# EAGLE library part SIM64/4 (library con-amp2)
AMP connector
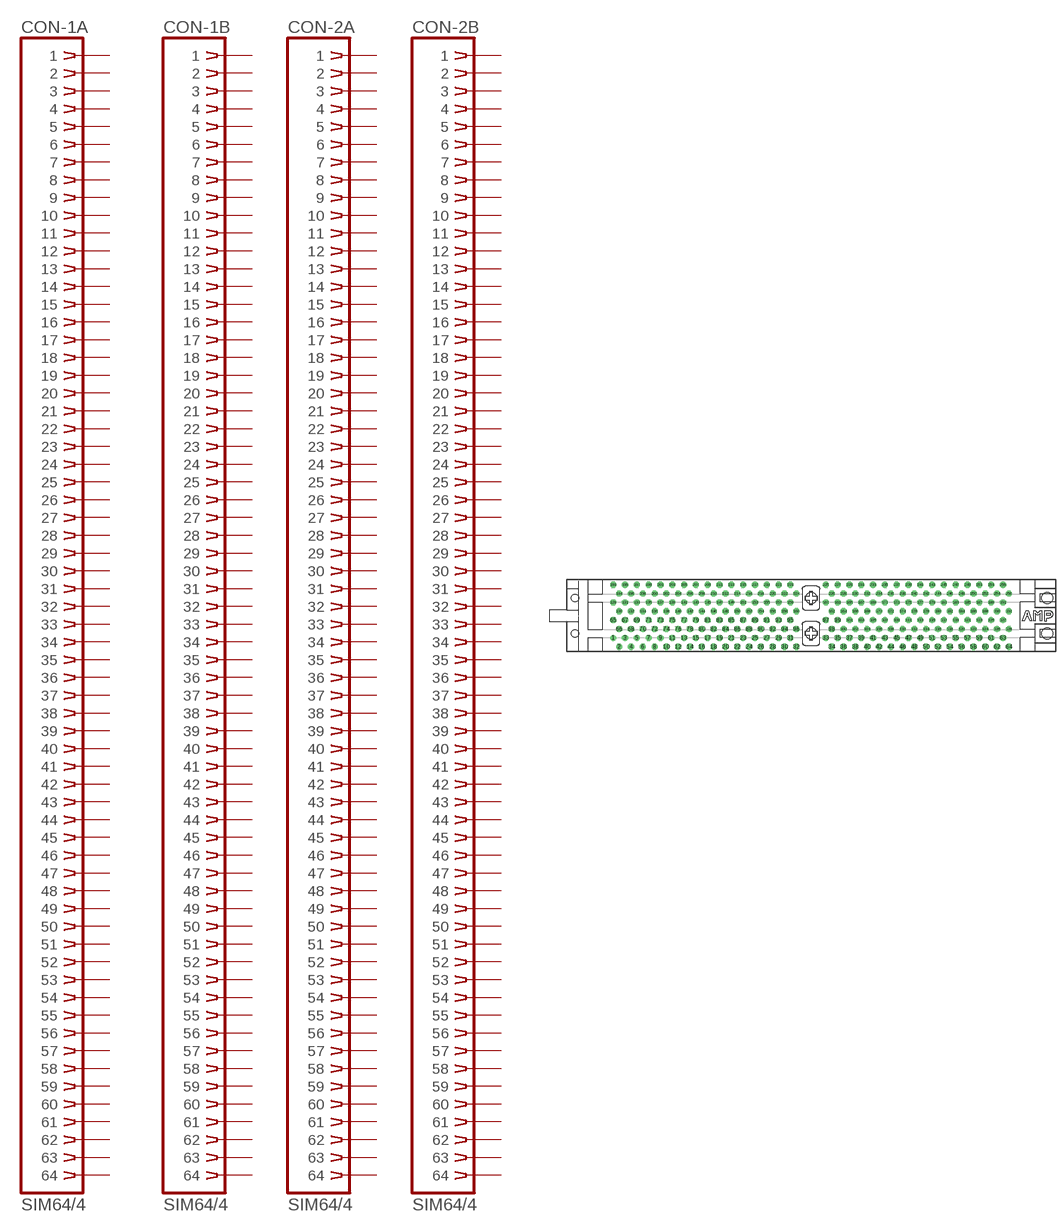
[diagram p17: symbol with the pads of 63825804; footprint 63825804]

Designator prefix CON; gates -1A=SIMM64 -1B=SIMM64 -2A=SIMM64 -2B=SIMM64

## SIM64/4  [63825804]
1  -1A:1  pas
2  -1A:2  pas
3  -1A:3  pas
4  -1A:4  pas
5  -1A:5  pas
6  -1A:6  pas
7  -1A:7  pas
8  -1A:8  pas
9  -1A:9  pas
10  -1A:10  pas
11  -1A:11  pas
12  -1A:12  pas
13  -1A:13  pas
14  -1A:14  pas
15  -1A:15  pas
16  -1A:16  pas
17  -1A:17  pas
18  -1A:18  pas
19  -1A:19  pas
20  -1A:20  pas
21  -1A:21  pas
22  -1A:22  pas
23  -1A:23  pas
24  -1A:24  pas
25  -1A:25  pas
26  -1A:26  pas
27  -1A:27  pas
28  -1A:28  pas
29  -1A:29  pas
30  -1A:30  pas
31  -1A:31  pas
32  -1A:32  pas
33  -1A:33  pas
34  -1A:34  pas
35  -1A:35  pas
36  -1A:36  pas
37  -1A:37  pas
38  -1A:38  pas
39  -1A:39  pas
40  -1A:40  pas
41  -1A:41  pas
42  -1A:42  pas
43  -1A:43  pas
44  -1A:44  pas
45  -1A:45  pas
46  -1A:46  pas
47  -1A:47  pas
48  -1A:48  pas
49  -1A:49  pas
50  -1A:50  pas
51  -1A:51  pas
52  -1A:52  pas
53  -1A:53  pas
54  -1A:54  pas
55  -1A:55  pas
56  -1A:56  pas
57  -1A:57  pas
58  -1A:58  pas
59  -1A:59  pas
60  -1A:60  pas
61  -1A:61  pas
62  -1A:62  pas
63  -1A:63  pas
64  -1A:64  pas
65  -1B:1  pas
66  -1B:2  pas
67  -1B:3  pas
68  -1B:4  pas
69  -1B:5  pas
70  -1B:6  pas
71  -1B:7  pas
72  -1B:8  pas
73  -1B:9  pas
74  -1B:10  pas
75  -1B:11  pas
76  -1B:12  pas
77  -1B:13  pas
78  -1B:14  pas
79  -1B:15  pas
80  -1B:16  pas
81  -1B:17  pas
82  -1B:18  pas
83  -1B:19  pas
84  -1B:20  pas
85  -1B:21  pas
86  -1B:22  pas
87  -1B:23  pas
88  -1B:24  pas
89  -1B:25  pas
90  -1B:26  pas
91  -1B:27  pas
92  -1B:28  pas
93  -1B:29  pas
94  -1B:30  pas
95  -1B:31  pas
96  -1B:32  pas
97  -1B:33  pas
98  -1B:34  pas
99  -1B:35  pas
100  -1B:36  pas
101  -1B:37  pas
102  -1B:38  pas
103  -1B:39  pas
104  -1B:40  pas
105  -1B:41  pas
106  -1B:42  pas
107  -1B:43  pas
108  -1B:44  pas
109  -1B:45  pas
110  -1B:46  pas
111  -1B:47  pas
112  -1B:48  pas
113  -1B:49  pas
114  -1B:50  pas
115  -1B:51  pas
116  -1B:52  pas
117  -1B:53  pas
118  -1B:54  pas
119  -1B:55  pas
120  -1B:56  pas
121  -1B:57  pas
122  -1B:58  pas
123  -1B:59  pas
124  -1B:60  pas
125  -1B:61  pas
126  -1B:62  pas
127  -1B:63  pas
128  -1B:64  pas
129  -2A:1  pas
130  -2A:2  pas
131  -2A:3  pas
132  -2A:4  pas
133  -2A:5  pas
134  -2A:6  pas
135  -2A:7  pas
136  -2A:8  pas
137  -2A:9  pas
138  -2A:10  pas
139  -2A:11  pas
140  -2A:12  pas
141  -2A:13  pas
142  -2A:14  pas
143  -2A:15  pas
144  -2A:16  pas
145  -2A:17  pas
146  -2A:18  pas
147  -2A:19  pas
148  -2A:20  pas
149  -2A:21  pas
150  -2A:22  pas
151  -2A:23  pas
152  -2A:24  pas
153  -2A:25  pas
154  -2A:26  pas
155  -2A:27  pas
156  -2A:28  pas
157  -2A:29  pas
158  -2A:30  pas
159  -2A:31  pas
160  -2A:32  pas
161  -2A:33  pas
162  -2A:34  pas
163  -2A:35  pas
164  -2A:36  pas
165  -2A:37  pas
166  -2A:38  pas
167  -2A:39  pas
168  -2A:40  pas
169  -2A:41  pas
170  -2A:42  pas
171  -2A:43  pas
172  -2A:44  pas
173  -2A:45  pas
174  -2A:46  pas
175  -2A:47  pas
176  -2A:48  pas
177  -2A:49  pas
178  -2A:50  pas
179  -2A:51  pas
180  -2A:52  pas
181  -2A:53  pas
182  -2A:54  pas
183  -2A:55  pas
184  -2A:56  pas
185  -2A:57  pas
186  -2A:58  pas
187  -2A:59  pas
188  -2A:60  pas
189  -2A:61  pas
190  -2A:62  pas
191  -2A:63  pas
192  -2A:64  pas
193  -2B:1  pas
194  -2B:2  pas
195  -2B:3  pas
196  -2B:4  pas
197  -2B:5  pas
198  -2B:6  pas
199  -2B:7  pas
200  -2B:8  pas
201  -2B:9  pas
202  -2B:10  pas
203  -2B:11  pas
204  -2B:12  pas
205  -2B:13  pas
206  -2B:14  pas
207  -2B:15  pas
208  -2B:16  pas
209  -2B:17  pas
210  -2B:18  pas
211  -2B:19  pas
212  -2B:20  pas
213  -2B:21  pas
214  -2B:22  pas
215  -2B:23  pas
216  -2B:24  pas
217  -2B:25  pas
218  -2B:26  pas
219  -2B:27  pas
220  -2B:28  pas
221  -2B:29  pas
222  -2B:30  pas
223  -2B:31  pas
224  -2B:32  pas
225  -2B:33  pas
226  -2B:34  pas
227  -2B:35  pas
228  -2B:36  pas
229  -2B:37  pas
230  -2B:38  pas
231  -2B:39  pas
232  -2B:40  pas
233  -2B:41  pas
234  -2B:42  pas
235  -2B:43  pas
236  -2B:44  pas
237  -2B:45  pas
238  -2B:46  pas
239  -2B:47  pas
240  -2B:48  pas
241  -2B:49  pas
242  -2B:50  pas
243  -2B:51  pas
244  -2B:52  pas
245  -2B:53  pas
246  -2B:54  pas
247  -2B:55  pas
248  -2B:56  pas
249  -2B:57  pas
250  -2B:58  pas
251  -2B:59  pas
252  -2B:60  pas
253  -2B:61  pas
254  -2B:62  pas
255  -2B:63  pas
256  -2B:64  pas

## Footprint 63825804 (pad centres in mm)
DIMM I Dual Read Out
drill 0.813 round: 1 -42.545,-4.763
drill 0.813 octagon: 2 -41.275,-6.668; 3 -40.005,-4.763; 4 -38.735,-6.668; 5 -37.465,-4.763; 6 -36.195,-6.668; 7 -34.925,-4.763; 8 -33.655,-6.668; 9 -32.385,-4.763; 10 -31.115,-6.668; 11 -29.845,-4.763; 12 -28.575,-6.668; 13 -27.305,-4.763; 14 -26.035,-6.668; 15 -24.765,-4.763; 16 -23.495,-6.668; 17 -22.225,-4.763; 18 -20.955,-6.668; 19 -19.685,-4.763; 20 -18.415,-6.668; 21 -17.145,-4.763; 22 -15.875,-6.668; 23 -14.605,-4.763; 24 -13.335,-6.668; 25 -12.065,-4.763; 26 -10.795,-6.668; 27 -9.525,-4.763; 28 -8.255,-6.668; 29 -6.985,-4.763; 30 -5.715,-6.668; 31 -4.445,-4.763; 32 -3.175,-6.668; 33 3.175,-4.763; 34 4.445,-6.668; 35 5.715,-4.763; 36 6.985,-6.668; 37 8.255,-4.763; 38 9.525,-6.668; 39 10.795,-4.763; 40 12.065,-6.668; 41 13.335,-4.763; 42 14.605,-6.668; 43 15.875,-4.763; 44 17.145,-6.668; 45 18.415,-4.763; 46 19.685,-6.668; 47 20.955,-4.763; 48 22.225,-6.668; 49 23.495,-4.763; 50 24.765,-6.668; 51 26.035,-4.763; 52 27.305,-6.668; 53 28.575,-4.763; 54 29.845,-6.668; 55 31.115,-4.763; 56 32.385,-6.668; 57 33.655,-4.763; 58 34.925,-6.668; 59 36.195,-4.763; 60 37.465,-6.668; 61 38.735,-4.763; 62 40.005,-6.668; 63 41.275,-4.763; 64 42.545,-6.668; 65 -42.545,-0.953; 66 -41.275,-2.857; 67 -40.005,-0.953; 68 -38.735,-2.857; 69 -37.465,-0.953; 70 -36.195,-2.857; 71 -34.925,-0.953; 72 -33.655,-2.857; 73 -32.385,-0.953; 74 -31.115,-2.857; 75 -29.845,-0.953; 76 -28.575,-2.857; 77 -27.305,-0.953; 78 -26.035,-2.857; 79 -24.765,-0.953; 80 -23.495,-2.857; 81 -22.225,-0.953; 82 -20.955,-2.857; 83 -19.685,-0.953; 84 -18.415,-2.857; 85 -17.145,-0.953; 86 -15.875,-2.857; 87 -14.605,-0.953; 88 -13.335,-2.857; 89 -12.065,-0.953; 90 -10.795,-2.857; 91 -9.525,-0.953; 92 -8.255,-2.857; 93 -6.985,-0.953; 94 -5.715,-2.857; 95 -4.445,-0.953; 96 -3.175,-2.857; 97 3.175,-0.953; 98 4.445,-2.857; 99 5.715,-0.953; 100 6.985,-2.857; 101 8.255,-0.953; 102 9.525,-2.857; 103 10.795,-0.953; 104 12.065,-2.857; 105 13.335,-0.953; 106 14.605,-2.857; 107 15.875,-0.953; 108 17.145,-2.857; 109 18.415,-0.953; 110 19.685,-2.857; 111 20.955,-0.953; 112 22.225,-2.857; 113 23.495,-0.953; 114 24.765,-2.857; 115 26.035,-0.953; 116 27.305,-2.857; 117 28.575,-0.953; 118 29.845,-2.857; 119 31.115,-0.953; 120 32.385,-2.857; 121 33.655,-0.953; 122 34.925,-2.857; 123 36.195,-0.953; 124 37.465,-2.857; 125 38.735,-0.953; 126 40.005,-2.857; 127 41.275,-0.953; 128 42.545,-2.857; 129 -42.545,2.857; 130 -41.275,0.953; 131 -40.005,2.857; 132 -38.735,0.953; 133 -37.465,2.857; 134 -36.195,0.953; 135 -34.925,2.857; 136 -33.655,0.953; 137 -32.385,2.857; 138 -31.115,0.953; 139 -29.845,2.857; 140 -28.575,0.953; 141 -27.305,2.857; 142 -26.035,0.953; 143 -24.765,2.857; 144 -23.495,0.953; 145 -22.225,2.857; 146 -20.955,0.953; 147 -19.685,2.857; 148 -18.415,0.953; 149 -17.145,2.857; 150 -15.875,0.953; 151 -14.605,2.857; 152 -13.335,0.953; 153 -12.065,2.857; 154 -10.795,0.953; 155 -9.525,2.857; 156 -8.255,0.953; 157 -6.985,2.857; 158 -5.715,0.953; 159 -4.445,2.857; 160 -3.175,0.953; 161 3.175,2.857; 162 4.445,0.953; 163 5.715,2.857; 164 6.985,0.953; 165 8.255,2.857; 166 9.525,0.953; 167 10.795,2.857; 168 12.065,0.953; 169 13.335,2.857; 170 14.605,0.953; 171 15.875,2.857; 172 17.145,0.953; 173 18.415,2.857; 174 19.685,0.953; 175 20.955,2.857; 176 22.225,0.953; 177 23.495,2.857; 178 24.765,0.953; 179 26.035,2.857; 180 27.305,0.953; 181 28.575,2.857; 182 29.845,0.953; 183 31.115,2.857; 184 32.385,0.953; 185 33.655,2.857; 186 34.925,0.953; 187 36.195,2.857; 188 37.465,0.953; 189 38.735,2.857; 190 40.005,0.953; 191 41.275,2.857; 192 42.545,0.953; 193 -42.545,6.668; 194 -41.275,4.763; 195 -40.005,6.668; 196 -38.735,4.763; 197 -37.465,6.668; 198 -36.195,4.763; 199 -34.925,6.668; 200 -33.655,4.763; 201 -32.385,6.668; 202 -31.115,4.763; 203 -29.845,6.668; 204 -28.575,4.763; 205 -27.305,6.668; 206 -26.035,4.763; 207 -24.765,6.668; 208 -23.495,4.763; 209 -22.225,6.668; 210 -20.955,4.763; 211 -19.685,6.668; 212 -18.415,4.763; 213 -17.145,6.668; 214 -15.875,4.763; 215 -14.605,6.668; 216 -13.335,4.763; 217 -12.065,6.668; 218 -10.795,4.763; 219 -9.525,6.668; 220 -8.255,4.763; 221 -6.985,6.668; 222 -5.715,4.763; 223 -4.445,6.668; 224 -3.175,4.763; 225 3.175,6.668; 226 4.445,4.763; 227 5.715,6.668; 228 6.985,4.763; 229 8.255,6.668; 230 9.525,4.763; 231 10.795,6.668; 232 12.065,4.763; 233 13.335,6.668; 234 14.605,4.763; 235 15.875,6.668; 236 17.145,4.763; 237 18.415,6.668; 238 19.685,4.763; 239 20.955,6.668; 240 22.225,4.763; 241 23.495,6.668; 242 24.765,4.763; 243 26.035,6.668; 244 27.305,4.763; 245 28.575,6.668; 246 29.845,4.763; 247 31.115,6.668; 248 32.385,4.763; 249 33.655,6.668; 250 34.925,4.763; 251 36.195,6.668; 252 37.465,4.763; 253 38.735,6.668; 254 40.005,4.763; 255 41.275,6.668; 256 42.545,4.763
hole 1.575 at -50.8,-3.81
hole 2.362 at 0,-3.81
hole 2.362 at 50.8,-3.81
hole 1.575 at -50.8,3.81
hole 2.362 at 0,3.81
hole 2.362 at 50.8,3.81